# EAGLE library part TP4506-MODULE (library TP4506-MODULE)
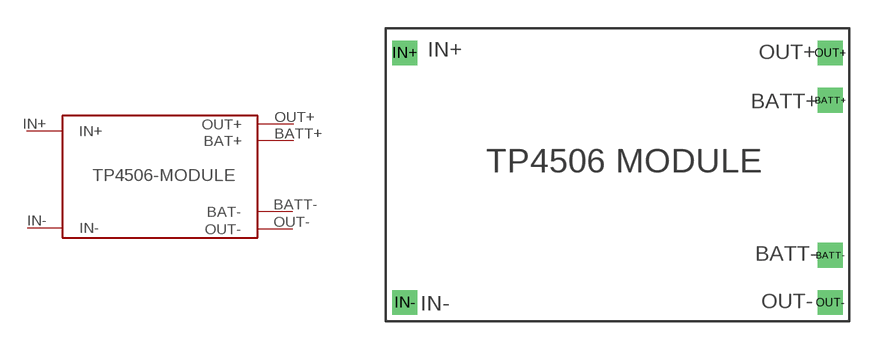
[diagram p0: symbol with the pads of TP4506-MODULE; footprint TP4506-MODULE]

Designator prefix -

## TP4506-MODULE  [TP4506-MODULE]
BATT+  BAT+
BATT-  BAT-
IN+  IN+
IN-  IN-
OUT+  OUT+
OUT-  OUT-

## Footprint TP4506-MODULE (pad centres in mm)
drill 0.8 square: BATT+ 22.5,10.7; BATT- 22.5,2.5; IN+ 0,13.2; IN- 0,0; OUT+ 22.5,13.2; OUT- 22.5,0